# EAGLE library part XY2500?-C(5.08)-16PIN (library con-xy2500)
XINYA XY2500 Connectors <http://www.china-xinya.com/en/> by Damian Nowak <http://nowakdamian.com> Basic specification: Max. voltage: 300 V Max. current: 15 A Pitch: 5.08 mm (0.2 inch) Pin dimension: 1.0 x 1.0 mm Materials: Housing: PA66(UL 94V-0) Solder pin: Brass, 1.0t, tin plated TME: TBG-5-PB-16P-GN
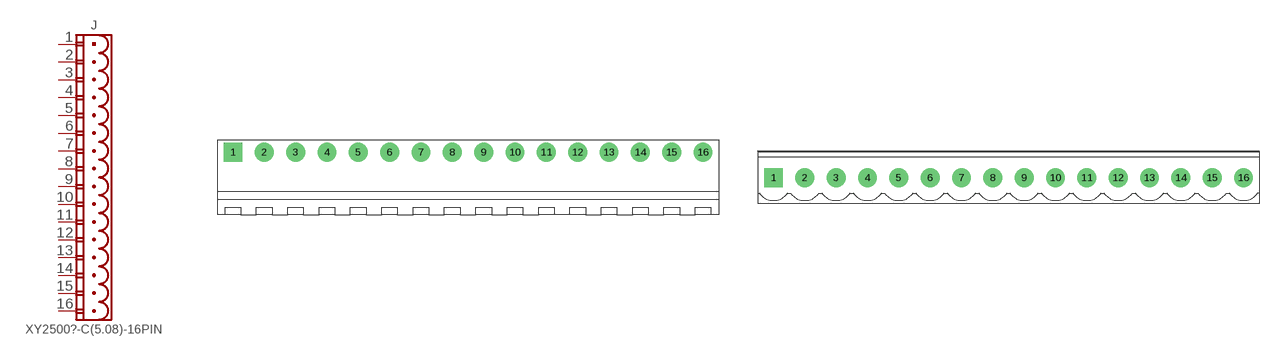
[diagram p5: symbol with the pads of XY2500R-C(5.08)-16PIN; footprints XY2500R-C(5.08)-16PIN, XY2500V-C(5.08)-16PIN]

Designator prefix J

## XY2500R-C(5.08)-16PIN  [XY2500R-C(5.08)-16PIN]
1  1
2  2
3  3
4  4
5  5
6  6
7  7
8  8
9  9
10  10
11  11
12  12
13  13
14  14
15  15
16  16

## XY2500V-C(5.08)-16PIN  [XY2500V-C(5.08)-16PIN]
Pads as for XY2500R-C(5.08)-16PIN

## Footprint XY2500R-C(5.08)-16PIN (pad centres in mm)
drill 1.5 pad 3.048 square: 1 -38.1,0
drill 1.5 pad 3.048: 2 -33.02,0; 3 -27.94,0; 4 -22.86,0; 5 -17.78,0; 6 -12.7,0; 7 -7.62,0; 8 -2.54,0; 9 2.54,0; 10 7.62,0; 11 12.7,0; 12 17.78,0; 13 22.86,0; 14 27.94,0; 15 33.02,0; 16 38.1,0

## Footprint XY2500V-C(5.08)-16PIN (pad centres in mm)
drill 1.5 pad 3.048 square: 1 -38.1,0
drill 1.5 pad 3.048: 2 -33.02,0; 3 -27.94,0; 4 -22.86,0; 5 -17.78,0; 6 -12.7,0; 7 -7.62,0; 8 -2.54,0; 9 2.54,0; 10 7.62,0; 11 12.7,0; 12 17.78,0; 13 22.86,0; 14 27.94,0; 15 33.02,0; 16 38.1,0